# Altium footprint library RESC3146X60N.PcbLib: 2 footprints
Each footprint in its own frame and in the unit in brackets; x right, y up, seen from the top. Pads: shape width x height; smd on the part's side, far side on the other; paste and mask are expansions set on the pad; w line width, h text height; cw(c..) or ccw(c..) is an arc to the next point about the centre after c.
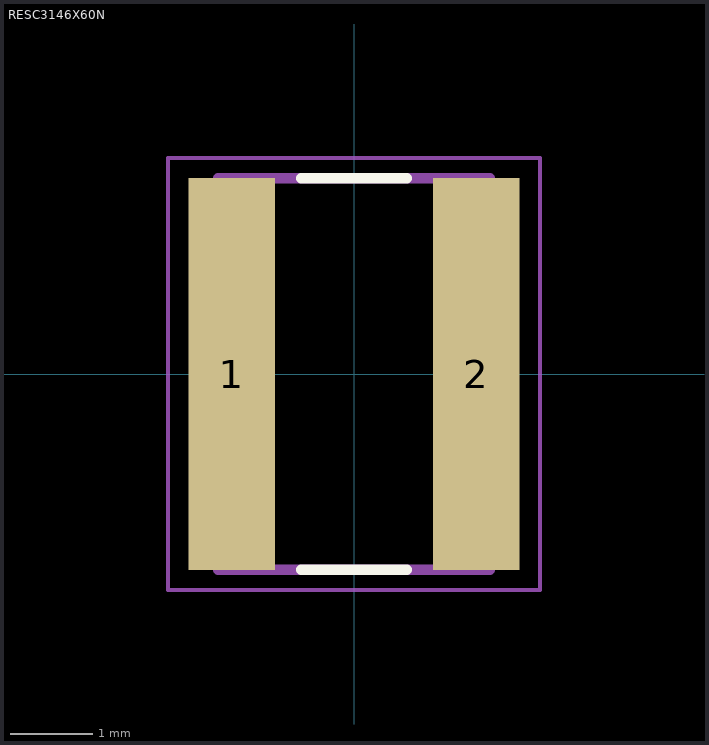
[diagram p0: the footprints below, top view; thin cyan lines are the x and y axes]

## PCBComponent_1 [mm]

## RESC3146X60N [mm]
pads (2):
  rect 1.05x4.77 smd: 1(-1.485,0) 2(1.485,0)
Top Overlay:
  lines w0.127: -0.64,-2.38 0.64,-2.38 ; -0.64,2.38 0.64,2.38
Mechanical 4:
  lines w0.127: -1.65,-2.38 -1.65,2.38 ; -1.65,-2.38 1.65,-2.38 ; -1.65,-2.38 -1.65,2.38 ; -1.65,-2.38 1.65,-2.38 ; -1.65,2.38 1.65,2.38 ; -1.65,2.38 1.65,2.38 ; 1.65,-2.38 1.65,2.38 ; 1.65,-2.38 1.65,2.38
Mechanical 16:
  lines w0.05: -2.26,-2.625 -2.26,2.625 2.26,2.625 2.26,-2.625 -2.26,-2.625